# Altium integrated library MUR160G.IntLib: 1 symbol
Pins are listed as number, name and electrical type; pins without a type are passive.

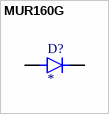
[diagram p0: symbol MUR160G]

## MUR160G
designator D?
MF: {'manufacturer': u'ON Semiconductor'}; MP: MUR160G; Package: None; Price: None; Value: *; Availability: Unavailable
footprint DIOAD1036W78L520D270
pins: 1 K, 2 A